# EAGLE library part MKRWAN1310 (library MKRWAN1310_Ale)
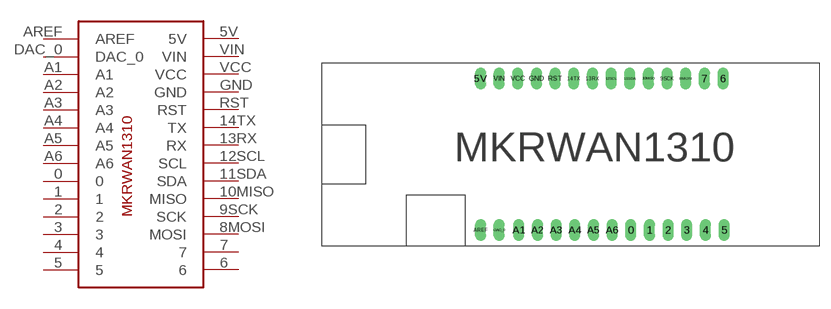
[diagram p0: symbol with the pads of MKRWAN1310; footprint MKRWAN1310]

Designator prefix -

## MKRWAN1310  [MKRWAN1310]
0  0
1  1
2  2
3  3
4  4
5  5
5V  5V
6  6
7  7
8MOSI  MOSI
9SCK  SCK
10MISO  MISO
11SDA  SDA
12SCL  SCL
13RX  RX
14TX  TX
A1  A1
A2  A2
A3  A3
A4  A4
A5  A5
A6  A6
AREF  AREF
DAC_0  DAC_0
GND  GND
RST  RST
VCC  VCC
VIN  VIN

## Footprint MKRWAN1310 (pad centres in mm)
drill 1 long: 0 42.06,2.2; 1 44.6,2.2; 2 47.14,2.2; 3 49.68,2.2; 4 52.22,2.2; 5 54.76,2.2; 5V 21.6,22.8; 6 54.62,22.8; 7 52.08,22.8; 8MOSI 49.54,22.8; 9SCK 47,22.8; 10MISO 44.46,22.8; 11SDA 41.92,22.8; 12SCL 39.38,22.8; 13RX 36.84,22.8; 14TX 34.3,22.8; A1 26.82,2.2; A2 29.36,2.2; A3 31.9,2.2; A4 34.44,2.2; A5 36.98,2.2; A6 39.52,2.2; AREF 21.6,2.2; DAC_0 24.14,2.2; GND 29.22,22.8; RST 31.76,22.8; VCC 26.68,22.8; VIN 24.14,22.8